# Altium schematic symbol library SCH - POWER - SWITCHMODE - TI MC33063A.SCHLIB: 1 symbol
Pins are listed as number, name and electrical type; pins without a type are passive.

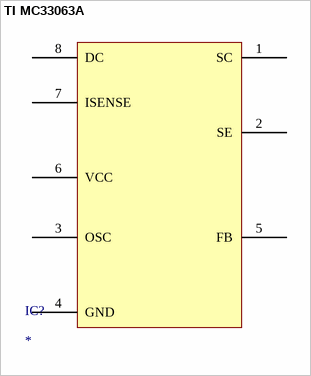
[diagram p0: symbol TI MC33063A]

## TI MC33063A
designator IC?
pins: 1 SC, 2 SE, 3 OSC, 4 GND, 5 FB, 6 VCC, 7 ISENSE, 8 DC